# Altium footprint library Battery.PcbLib: 12 footprints
Each footprint in its own frame and in the unit in brackets; x right, y up, seen from the top. Pads: shape width x height; smd on the part's side, far side on the other; paste and mask are expansions set on the pad; w line width, h text height; cw(c..) or ccw(c..) is an arc to the next point about the centre after c.
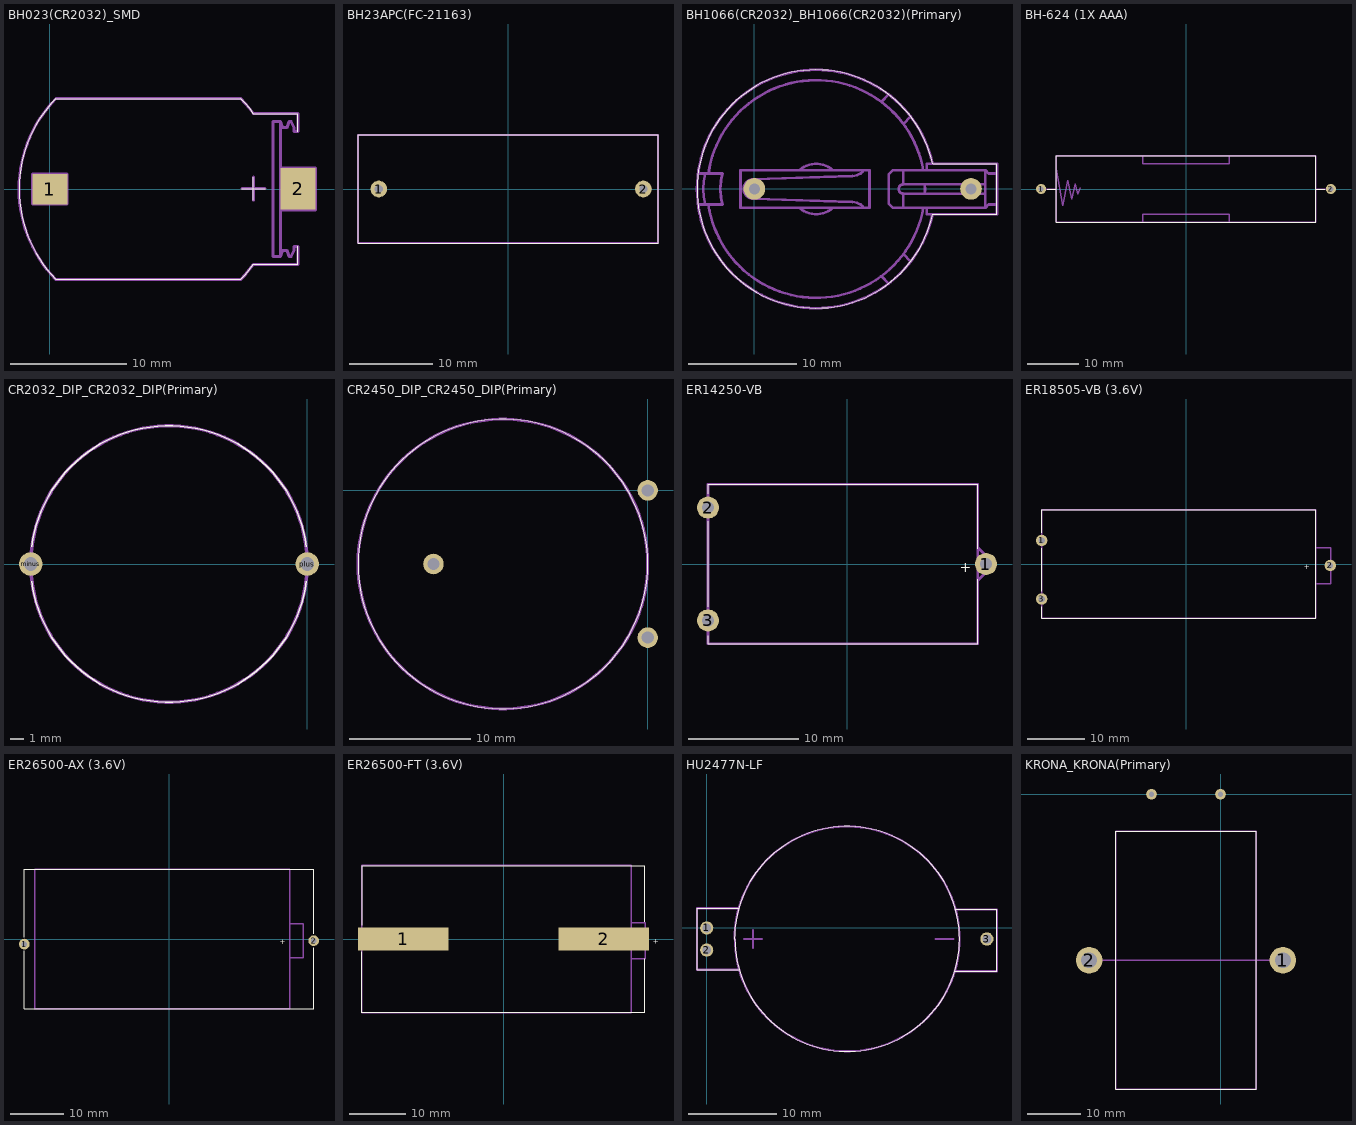
[diagram p0: the footprints below, top view; thin cyan lines are the x and y axes]

## BH023(CR2032)_SMD [mm]
pads (2):
  rect 3x2.6 smd: 1(0,0)
  rect 3x3.6 smd: 2(21.4,0.05)
Top Overlay:
  lines w0.1: 0.504,-7.765 cw(c8.484,0.023) 0.517,7.824 ; 0.516,-7.777 16.451,-7.777 ; 0.516,7.823 16.451,7.823 ; 16.45,-7.778 ccw(c8.484,0.023) 17.539,-6.484 ; 16.464,7.81 cw(c8.484,0.023) 17.55,6.513 ; 16.55,0.05 18.55,0.05 ; 17.543,-6.477 19.884,-6.477 21.384,-6.477 21.384,-4.924 ; 17.543,6.523 19.884,6.523 21.384,6.523 21.384,4.97 ; 17.55,-0.95 17.55,0.05 17.55,1.05
Mechanical 1:
  lines w0.25: 0.504,-7.765 cw(c8.484,0.023) 0.517,7.824 ; 0.516,-7.777 16.451,-7.777 ; 0.516,7.823 16.451,7.823 ; 16.45,-7.778 ccw(c8.484,0.023) 17.539,-6.484 ; 16.464,7.81 cw(c8.484,0.023) 17.55,6.513 ; 16.55,0.05 18.55,0.05 ; 17.543,6.523 19.884,6.523 21.384,6.523 21.384,4.97 21.056,4.97 21.056,5.246 20.808,5.828 20.625,5.828 20.453,5.311 20.043,5.311 19.871,5.828 19.235,5.828 19.235,0.023 19.235,-5.783 19.871,-5.783 20.043,-5.265 20.453,-5.265 20.625,-5.783 20.808,-5.783 21.056,-5.201 21.056,-4.924 21.384,-4.924 21.384,-6.477 19.884,-6.477 ; 17.55,-0.95 17.55,1.05 ; 19.884,-5.743 19.884,-1.777 ; 19.884,5.789 19.884,1.823 ; 19.884,-6.477 17.543,-6.477 19.884,-6.477 ; 19.884,-1.777 19.884,0.023 19.884,1.823 ; 19.884,-1.777 22.884,-1.777 22.884,1.823 19.884,1.823 ; -1.516,-1.277 -1.516,1.323 1.484,1.323 1.484,-1.277 -1.516,-1.277

## BH23APC(FC-21163) [mm]
pads (2):
  round 2 hole 1: 1(-15.5,0) 2(16.25,0)
Top Overlay:
  lines w0.1: -18,-6.5 18,-6.5 18,6.5 0,6.5 -18,6.5 -18,-6.5
Mechanical 1:
  lines w0.25: -18,-6.5 0,-6.5 18,-6.5 18,6.5 0,6.5 -18,6.5 -18,-6.5

## BH1066(CR2032)_BH1066(CR2032)(Primary) [mm]
pads (2):
  round 2 hole 1: minus_bot(0,0) plus_top(20,0)
Top Overlay:
  lines w0.1: 16.447,-2.355 cw(c5.7,-0.012) 16.452,2.313 ; 16.5,-2.338 22.4,-2.338 22.4,2.314 16.5,2.314
Mechanical 1:
  lines w0.25: -5.205,-1.452 -2.946,-1.452 -3.092,-0.732 -3.141,-0.012 -3.092,0.708 -2.946,1.428 -5.205,1.428 ; -4.55,-1.452 -4.682,-0.732 -4.726,-0.012 -4.682,0.708 -4.55,1.428 ; -4.247,-1.445 ccw(c5.7,-0.012) 15.597,-1.757 ; -4.245,1.439 cw(c5.7,-0.012) 15.6,1.716 ; 4.156,-1.751 ccw(c5.7,-0.012) 7.241,-1.754 ; 4.159,1.73 cw(c5.7,-0.012) 7.244,1.728 ; 10.116,-1.753 9.975,-1.588 9.815,-1.452 9.467,-1.276 9.055,-1.203 -0.101,-0.9 cw(c-0.101,-0.012) -0.101,0.876 9.055,1.179 9.467,1.252 9.815,1.428 9.975,1.565 10.116,1.73 ; 11.715,-8.063 12.393,-8.741 ; 11.715,8.04 12.393,8.718 ; 13.751,-6.026 14.43,-6.705 ; 13.751,-1.753 13.751,-0.441 ; 13.751,1.73 13.751,0.417 ; 13.751,6.003 14.43,6.681 ; 15.74,-0.45 ccw(c5.7,-0.012) 15.741,0.409 ; 15.911,-1.753 15.911,-2.338 22.4,-2.338 22.4,2.314 15.911,2.314 15.911,1.73 ; 16.447,-2.355 cw(c5.7,-0.012) 16.452,2.313 ; 21.326,-0.441 13.751,-0.441 ; 21.326,0.417 13.751,0.417 ; 22.4,-1.452 21.628,-1.452 21.326,-1.753 ; 22.4,1.428 21.628,1.428 21.326,1.73 ; 13.751,-0.441 cw(c13.751,-0.012) 13.322,-0.012 cw(c13.751,-0.012) 13.751,0.417 ; 21.326,-1.753 12.793,-1.753 12.393,-1.353 12.393,-0.012 12.393,1.33 12.793,1.73 21.326,1.73 ; 21.326,-1.753 21.326,-0.012 21.326,1.73 ; -1.276,-1.753 10.625,-1.753 10.625,-0.012 10.625,1.73 -1.276,1.73 -1.276,-0.012 -1.276,-1.753

## BH-624 (1X AAA) [mm]
pads (2):
  round 2 hole 1: 1(-28.5,0) 2(28.5,0)
Top Overlay:
  lines w0.1: -27.25,0 -25.5,0 ; 25.5,0 27.25,0 ; -25.5,-6.5 25.5,-6.5 25.5,6.5 -25.5,6.5 -25.5,-6.5
Mechanical 1:
  lines w0.25: -28.5,0 -25.5,0 ; -25.5,4 -24.25,-3.25 -23.25,1.75 -22.5,-2 -21.75,1 -21.25,-1 -20.75,0.25 ; -8.5,-6.5 -8.5,-5 0,-5 8.5,-5 8.5,-6.5 ; -8.5,6.5 -8.5,5 0,5 8.5,5 8.5,6.5 ; 25.5,0 28.5,0 ; -25.5,-6.5 25.5,-6.5 25.5,6.5 -25.5,6.5 -25.5,-6.5

## CR2032_DIP_CR2032_DIP(Primary) [mm]
pads (2):
  round 1.7 hole 1: minus(-20,0) plus(0,0)
Top Overlay:
  lines w0.1: -19.923,-1.236 ccw(c-10,0) -0.077,-1.236 ; -19.923,1.236 cw(c-10,0) -0.077,1.236
Mechanical 1:
  lines w0.25: -20,0 cw(c-10,0) 0,0 cw(c-10,0) -20,0

## CR2450_DIP_CR2450_DIP(Primary) [mm]
pads (3):
  round 1.7 hole 1: minus(-17.75,-6.1) plus1(0,0) plus2(0,-12.2)
Top Overlay:
  lines w0.1: -24,-6.1 cw(c-12,-6.1) 0,-6.1 cw(c-12,-6.1) -24,-6.1
Mechanical 1:
  lines w0.25: -24,-6.1 cw(c-12,-6.1) 0,-6.1 cw(c-12,-6.1) -24,-6.1

## ER14250-VB [mm]
pads (3):
  round 2 hole 1.1: 1(12.625,0) 2(-12.625,5.125) 3(-12.625,-5.125)
Top Overlay:
  lines w0.1: -12.625,-6.5 -12.625,-7.25 11.875,-7.25 11.875,-1.375 ; -12.625,-3.875 -12.625,3.875 ; -12.625,6.375 -12.625,7.25 11.875,7.25 11.875,1.375
  text "+" at 10.25,-0.75 h0.94
Mechanical 1:
  lines w0.25: 11.875,-1.5 12.625,-0.75 12.625,0 12.625,0.75 11.875,1.5 ; -12.625,-7.25 11.875,-7.25 11.875,7.25 -12.625,7.25 -12.625,-7.25

## ER18505-VB (3.6V) [mm]
pads (3):
  round 2 hole 1.1: 1(-25.25,4.125) 3(-25.25,-6.125)
  round 2 hole 1: 2(25.25,-0.25)
Top Overlay:
  lines w0.1: -25.25,-7.5 -25.25,-9.5 22.75,-9.5 22.75,9.5 -25.25,9.5 -25.25,5.5 ; -25.25,-4.75 -25.25,2.75
  text "+" at 20.637,-0.953 h0.94
Mechanical 1:
  lines w0.25: 22.792,-3.492 25.332,-3.492 25.332,-0.318 25.332,2.857 22.792,2.857 ; -25.25,-9.5 22.75,-9.5 22.75,9.5 -25.25,9.5 -25.25,-9.5
  text "+" at 20.637,-0.953 h0.94

## ER26500-AX (3.6V) [mm]
pads (2):
  round 2 hole 1: 1(-26.987,-0.953) 2(26.987,-0.318)
Top Overlay:
  lines w0.1: -26.987,-2.222 -26.987,-13.018 26.987,-13.018 26.987,-1.587 ; -26.987,0.318 -26.987,13.018 26.987,13.018 26.987,0.953
  text "+" at 20.637,-0.953 h0.94
Mechanical 1:
  lines w0.25: 22.543,-3.492 25.082,-3.492 25.082,-0.318 25.082,2.857 22.543,2.857 ; -25.082,-13.018 22.543,-13.018 22.543,13.018 -25.082,13.018 -25.082,-13.018
  text "+" at 20.637,-0.953 h0.94

## ER26500-FT (3.6V) [mm]
pads (2):
  rect 16x4 smd: 1(-17.75,0) 2(17.75,0)
Top Overlay:
  lines w0.1: -25.125,-13 25,-13 25,-3.5 ; -25.112,-13.018 -25.112,-2.222 ; -25.112,2.442 -25.125,13 25,13 24.987,3.077
  text "+" at 26.375,-0.875 h0.94
Mechanical 1:
  lines w0.25: 22.543,-3.492 25.082,-3.492 25.082,-0.318 25.082,2.857 22.543,2.857 ; -25.082,-13.018 22.543,-13.018 22.543,13.018 -25.082,13.018 -25.082,-13.018
  text "+" at 20.25,-0.75 h0.94

## HU2477N-LF [mm]
pads (3):
  round 1.5 hole 1: 1(0,0) 2(0,-2.5) 3(31.8,-1.25)
Top Overlay:
  lines w0.1: 3.15,-1.25 cw(c15.925,-1.25) 28.7,-1.25 cw(c15.95,-1.25) 3.2,-1.25 ; 3.65,2.25 -1.1,2.25 -1.1,-1.25 -1.1,-4.75 3.7,-4.75 ; 28.15,-4.9 32.95,-4.9 32.95,-1.4 32.95,2.1 28.2,2.1
Mechanical 1:
  lines w0.25: 3.15,-1.25 cw(c15.925,-1.25) 28.7,-1.25 cw(c15.95,-1.25) 3.2,-1.25 ; 3.65,2.25 -1.1,2.25 -1.1,-1.25 -1.1,-4.75 3.7,-4.75 ; 4.25,-1.25 6.25,-1.25 ; 5.25,-2.25 5.25,-1.25 5.25,-0.25 ; 26,-1.25 28,-1.25 ; 28.15,-4.9 32.95,-4.9 32.95,-1.4 32.95,2.1 28.2,2.1

## KRONA_KRONA(Primary) [mm]
pads (4):
  round 5 hole 3: 1(11.75,-31.25) 2(-24.75,-31.25)
  round 2 hole 1: minus(-13,0) plus(0,0)
Top Overlay:
  lines w0.1: -19.75,-55.5 6.75,-55.5 6.75,-7 -19.75,-7 -19.75,-55.5
Mechanical 1:
  lines w0.25: -24.75,-31.25 11.75,-31.25 ; -19.75,-55.5 6.75,-55.5 6.75,-7 -19.75,-7 -19.75,-55.5